# EAGLE library part RESISTOR-ARRAY-4 (library passives)
Chip resistor array Example part: 1K array Digikey Y7102CT-ND
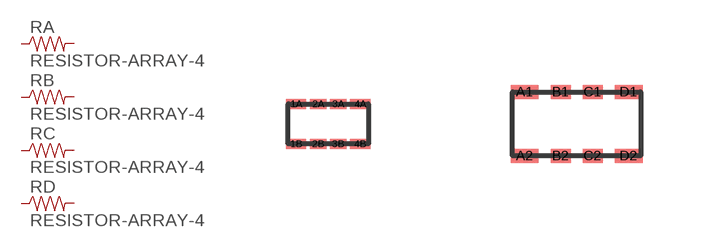
[diagram p0: symbol with the pads of ARRAY-CONVEX-0402-4; footprints ARRAY-CONVEX-0402-4, ARRAY-CONVEX-0603-4]

Designator prefix R; gates A=RESISTOR B=RESISTOR C=RESISTOR D=RESISTOR

## RESISTOR-ARRAY-40804  [ARRAY-CONVEX-0402-4]
1A  A:1  pas
1B  A:2  pas
2A  B:1  pas
2B  B:2  pas
3A  C:1  pas
3B  C:2  pas
4A  D:1  pas
4B  D:2  pas

## RESISTOR-ARRAY-41206  [ARRAY-CONVEX-0603-4]
A1  A:1  pas
A2  A:2  pas
B1  B:1  pas
B2  B:2  pas
C1  C:1  pas
C2  C:2  pas
D1  D:1  pas
D2  D:2  pas

## Footprint ARRAY-CONVEX-0402-4 (pad centres in mm)
Chip Resistor Array - 0804 package - 4x0402 Drawn from https://industrial.panasonic.com/cdbs/www-data/pdf/AOC0000/AOC0000C14.pdf From DigiKey part Y7102CT-ND
smd 0.5 x 0.25: 1A -0.8,0.5; 1B -0.8,-0.5; 4A 0.8,0.5; 4B 0.8,-0.5
smd 0.4 x 0.25: 2A -0.25,0.5; 2B -0.25,-0.5; 3A 0.25,0.5; 3B 0.25,-0.5

## Footprint ARRAY-CONVEX-0603-4 (pad centres in mm)
Chip Resistor Array - 1206 - 4x0603 Drawn from https://industrial.panasonic.com/cdbs/www-data/pdf/AOC0000/AOC0000C14.pdf Digikey part Y9102CT-ND
smd 0.7 x 0.35: A1 -1.3,0.8; A2 -1.3,-0.8; D1 1.3,0.8; D2 1.3,-0.8
smd 0.5 x 0.35: B1 -0.4,0.8; B2 -0.4,-0.8; C1 0.4,0.8; C2 0.4,-0.8